# Altium footprint library QFN_Sq_50P_Side_M.PcbLib: 118 footprints (part 8 of 8)
Each footprint in its own frame and in the unit in brackets; x right, y up, seen from the top. Pads: shape width x height; smd on the part's side, far side on the other; paste and mask are expansions set on the pad; w line width, h text height; cw(c..) or ccw(c..) is an arc to the next point about the centre after c.
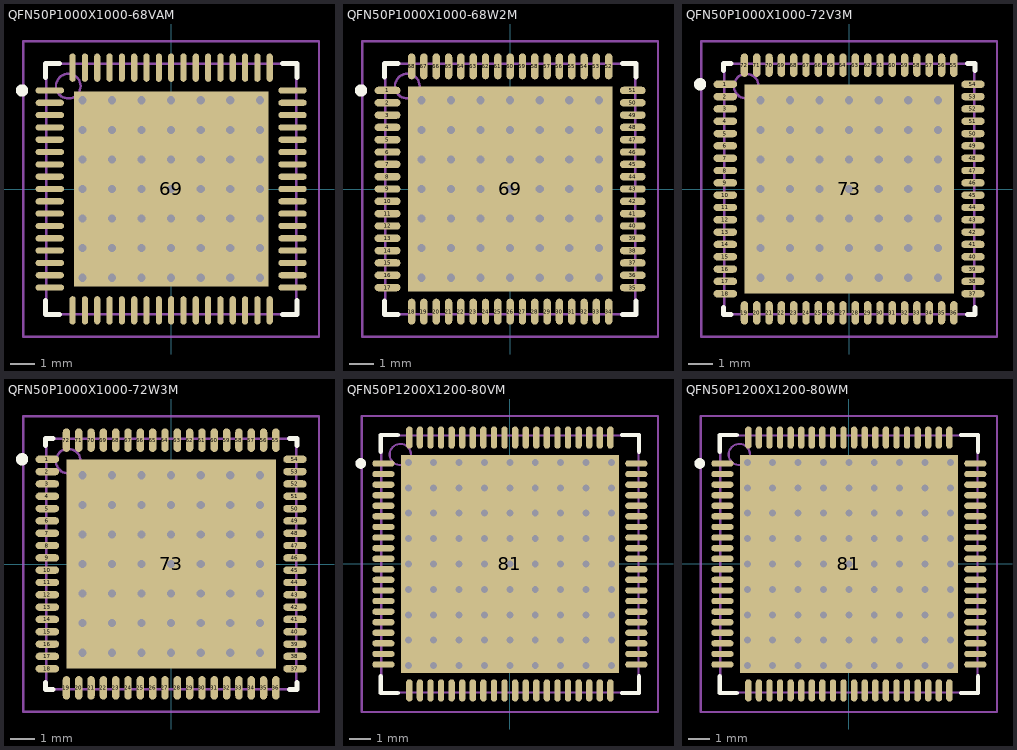
[diagram p7: the footprints below, top view; thin cyan lines are the x and y axes]

## QFN50P1000X1000-68VAM [mm] "68-Pin Plastic Quad Flat No-Lead 0.5 mm Pitch"
height 1
pads (69):
  oval 1.15x0.25 smd: 1(-4.925,4) 2(-4.925,3.5) 3(-4.925,3) 4(-4.925,2.5) 5(-4.925,2) 6(-4.925,1.5) 7(-4.925,1) 8(-4.925,0.5) 9(-4.925,0) 10(-4.925,-0.5) 11(-4.925,-1) 12(-4.925,-1.5) 13(-4.925,-2) 14(-4.925,-2.5) 15(-4.925,-3) 16(-4.925,-3.5) 17(-4.925,-4) 35(4.925,-4) 36(4.925,-3.5) 37(4.925,-3) 38(4.925,-2.5) 39(4.925,-2) 40(4.925,-1.5) 41(4.925,-1) 42(4.925,-0.5) 43(4.925,0) 44(4.925,0.5) 45(4.925,1) 46(4.925,1.5) 47(4.925,2) 48(4.925,2.5) 49(4.925,3) 50(4.925,3.5) 51(4.925,4)
  oval 0.25x1.15 smd: 18(-4,-4.925) 19(-3.5,-4.925) 20(-3,-4.925) 21(-2.5,-4.925) 22(-2,-4.925) 23(-1.5,-4.925) 24(-1,-4.925) 25(-0.5,-4.925) 26(0,-4.925) 27(0.5,-4.925) 28(1,-4.925) 29(1.5,-4.925) 30(2,-4.925) 31(2.5,-4.925) 32(3,-4.925) 33(3.5,-4.925) 34(4,-4.925) 52(4,4.925) 53(3.5,4.925) 54(3,4.925) 55(2.5,4.925) 56(2,4.925) 57(1.5,4.925) 58(1,4.925) 59(0.5,4.925) 60(0,4.925) 61(-0.5,4.925) 62(-1,4.925) 63(-1.5,4.925) 64(-2,4.925) 65(-2.5,4.925) 66(-3,4.925) 67(-3.5,4.925) 68(-4,4.925)
  rect 7.9x7.9 smd: 69(0,0)
via -3.6,3.6 diameter 0.66 hole 0.33
via -2.4,3.6 diameter 0.66 hole 0.33
via -1.2,3.6 diameter 0.66 hole 0.33
via 0,3.6 diameter 0.66 hole 0.33
via 1.2,3.6 diameter 0.66 hole 0.33
via 2.4,3.6 diameter 0.66 hole 0.33
via 3.6,3.6 diameter 0.66 hole 0.33
via -3.6,2.4 diameter 0.66 hole 0.33
via -2.4,2.4 diameter 0.66 hole 0.33
via -1.2,2.4 diameter 0.66 hole 0.33
via 0,2.4 diameter 0.66 hole 0.33
via 1.2,2.4 diameter 0.66 hole 0.33
via 2.4,2.4 diameter 0.66 hole 0.33
via 3.6,2.4 diameter 0.66 hole 0.33
via -3.6,1.2 diameter 0.66 hole 0.33
via -2.4,1.2 diameter 0.66 hole 0.33
via -1.2,1.2 diameter 0.66 hole 0.33
via 0,1.2 diameter 0.66 hole 0.33
via 1.2,1.2 diameter 0.66 hole 0.33
via 2.4,1.2 diameter 0.66 hole 0.33
via 3.6,1.2 diameter 0.66 hole 0.33
via -3.6,0 diameter 0.66 hole 0.33
via -2.4,0 diameter 0.66 hole 0.33
via -1.2,0 diameter 0.66 hole 0.33
via 0,0 diameter 0.66 hole 0.33
via 1.2,0 diameter 0.66 hole 0.33
via 2.4,0 diameter 0.66 hole 0.33
via 3.6,0 diameter 0.66 hole 0.33
via -3.6,-1.2 diameter 0.66 hole 0.33
via -2.4,-1.2 diameter 0.66 hole 0.33
via -1.2,-1.2 diameter 0.66 hole 0.33
via 0,-1.2 diameter 0.66 hole 0.33
via 1.2,-1.2 diameter 0.66 hole 0.33
via 2.4,-1.2 diameter 0.66 hole 0.33
via 3.6,-1.2 diameter 0.66 hole 0.33
via -3.6,-2.4 diameter 0.66 hole 0.33
via -2.4,-2.4 diameter 0.66 hole 0.33
via -1.2,-2.4 diameter 0.66 hole 0.33
via 0,-2.4 diameter 0.66 hole 0.33
via 1.2,-2.4 diameter 0.66 hole 0.33
via 2.4,-2.4 diameter 0.66 hole 0.33
via 3.6,-2.4 diameter 0.66 hole 0.33
via -3.6,-3.6 diameter 0.66 hole 0.33
via -2.4,-3.6 diameter 0.66 hole 0.33
via -1.2,-3.6 diameter 0.66 hole 0.33
via 0,-3.6 diameter 0.66 hole 0.33
via 1.2,-3.6 diameter 0.66 hole 0.33
via 2.4,-3.6 diameter 0.66 hole 0.33
via 3.6,-3.6 diameter 0.66 hole 0.33
Top Overlay:
  circle w0.25: c-6.05,4 r0.125
  lines w0.2: -5.1,-4.525 -5.1,-5.1 -4.525,-5.1 ; -5.1,4.525 -5.1,5.1 -4.525,5.1 ; 4.525,-5.1 5.1,-5.1 5.1,-4.525 ; 4.525,5.1 5.1,5.1 5.1,4.525
Mechanical 13:
  circle w0.1: c-4.175,4.175 r0.5
  lines w0.1: -5.075,-5.075 -5.075,5.075 5.075,5.075 5.075,-5.075 -5.075,-5.075
Mechanical 15:
  lines w0.1: -0.5,0 0.5,0 ; 0,-0.5 0,0.5 ; -6,-6 -6,6 6,6 6,-6 -6,-6
3D body: height 1, standoff 0, extent -5.075,-5.075 5.075,5.075

## QFN50P1000X1000-68W2M [mm] "QFN, 68-Leads, Body 10x10mm, Pitch 0.5mm, IPC Low Density"
height 0.8
pads (69):
  oval 1.05x0.3 smd: 1(-4.975,4) 2(-4.975,3.5) 3(-4.975,3) 4(-4.975,2.5) 5(-4.975,2) 6(-4.975,1.5) 7(-4.975,1) 8(-4.975,0.5) 9(-4.975,0) 10(-4.975,-0.5) 11(-4.975,-1) 12(-4.975,-1.5) 13(-4.975,-2) 14(-4.975,-2.5) 15(-4.975,-3) 16(-4.975,-3.5) 17(-4.975,-4) 35(4.975,-4) 36(4.975,-3.5) 37(4.975,-3) 38(4.975,-2.5) 39(4.975,-2) 40(4.975,-1.5) 41(4.975,-1) 42(4.975,-0.5) 43(4.975,0) 44(4.975,0.5) 45(4.975,1) 46(4.975,1.5) 47(4.975,2) 48(4.975,2.5) 49(4.975,3) 50(4.975,3.5) 51(4.975,4)
  oval 0.3x1.05 smd: 18(-4,-4.975) 19(-3.5,-4.975) 20(-3,-4.975) 21(-2.5,-4.975) 22(-2,-4.975) 23(-1.5,-4.975) 24(-1,-4.975) 25(-0.5,-4.975) 26(0,-4.975) 27(0.5,-4.975) 28(1,-4.975) 29(1.5,-4.975) 30(2,-4.975) 31(2.5,-4.975) 32(3,-4.975) 33(3.5,-4.975) 34(4,-4.975) 52(4,4.975) 53(3.5,4.975) 54(3,4.975) 55(2.5,4.975) 56(2,4.975) 57(1.5,4.975) 58(1,4.975) 59(0.5,4.975) 60(0,4.975) 61(-0.5,4.975) 62(-1,4.975) 63(-1.5,4.975) 64(-2,4.975) 65(-2.5,4.975) 66(-3,4.975) 67(-3.5,4.975) 68(-4,4.975)
  rect 8.3x8.3 smd: 69(0,0)
via -3.6,3.6 diameter 0.66 hole 0.33
via -2.4,3.6 diameter 0.66 hole 0.33
via -1.2,3.6 diameter 0.66 hole 0.33
via 0,3.6 diameter 0.66 hole 0.33
via 1.2,3.6 diameter 0.66 hole 0.33
via 2.4,3.6 diameter 0.66 hole 0.33
via 3.6,3.6 diameter 0.66 hole 0.33
via -3.6,2.4 diameter 0.66 hole 0.33
via -2.4,2.4 diameter 0.66 hole 0.33
via -1.2,2.4 diameter 0.66 hole 0.33
via 0,2.4 diameter 0.66 hole 0.33
via 1.2,2.4 diameter 0.66 hole 0.33
via 2.4,2.4 diameter 0.66 hole 0.33
via 3.6,2.4 diameter 0.66 hole 0.33
via -3.6,1.2 diameter 0.66 hole 0.33
via -2.4,1.2 diameter 0.66 hole 0.33
via -1.2,1.2 diameter 0.66 hole 0.33
via 0,1.2 diameter 0.66 hole 0.33
via 1.2,1.2 diameter 0.66 hole 0.33
via 2.4,1.2 diameter 0.66 hole 0.33
via 3.6,1.2 diameter 0.66 hole 0.33
via -3.6,0 diameter 0.66 hole 0.33
via -2.4,0 diameter 0.66 hole 0.33
via -1.2,0 diameter 0.66 hole 0.33
via 0,0 diameter 0.66 hole 0.33
via 1.2,0 diameter 0.66 hole 0.33
via 2.4,0 diameter 0.66 hole 0.33
via 3.6,0 diameter 0.66 hole 0.33
via -3.6,-1.2 diameter 0.66 hole 0.33
via -2.4,-1.2 diameter 0.66 hole 0.33
via -1.2,-1.2 diameter 0.66 hole 0.33
via 0,-1.2 diameter 0.66 hole 0.33
via 1.2,-1.2 diameter 0.66 hole 0.33
via 2.4,-1.2 diameter 0.66 hole 0.33
via 3.6,-1.2 diameter 0.66 hole 0.33
via -3.6,-2.4 diameter 0.66 hole 0.33
via -2.4,-2.4 diameter 0.66 hole 0.33
via -1.2,-2.4 diameter 0.66 hole 0.33
via 0,-2.4 diameter 0.66 hole 0.33
via 1.2,-2.4 diameter 0.66 hole 0.33
via 2.4,-2.4 diameter 0.66 hole 0.33
via 3.6,-2.4 diameter 0.66 hole 0.33
via -3.6,-3.6 diameter 0.66 hole 0.33
via -2.4,-3.6 diameter 0.66 hole 0.33
via -1.2,-3.6 diameter 0.66 hole 0.33
via 0,-3.6 diameter 0.66 hole 0.33
via 1.2,-3.6 diameter 0.66 hole 0.33
via 2.4,-3.6 diameter 0.66 hole 0.33
via 3.6,-3.6 diameter 0.66 hole 0.33
Top Overlay:
  circle w0.25: c-6.05,4 r0.125
  lines w0.2: -5.1,-4.55 -5.1,-5.1 -4.55,-5.1 ; -5.1,4.55 -5.1,5.1 -4.55,5.1 ; 4.55,-5.1 5.1,-5.1 5.1,-4.55 ; 4.55,5.1 5.1,5.1 5.1,4.55
Mechanical 13:
  circle w0.1: c-4.175,4.175 r0.5
  lines w0.1: -5.075,-5.075 -5.075,5.075 5.075,5.075 5.075,-5.075 -5.075,-5.075
Mechanical 15:
  lines w0.1: -0.5,0 0.5,0 ; 0,-0.5 0,0.5 ; -6,-6 -6,6 6,6 6,-6 -6,-6
3D body: height 0.8, standoff 0, extent -5.075,-5.075 5.075,5.075

## QFN50P1000X1000-72V3M [mm] "QFN, 72-Leads, Body 10x10mm, Pitch 0.5mm, IPC Low Density"
height 1
pads (73):
  oval 0.95x0.3 smd: 1(-5.025,4.25) 2(-5.025,3.75) 3(-5.025,3.25) 4(-5.025,2.75) 5(-5.025,2.25) 6(-5.025,1.75) 7(-5.025,1.25) 8(-5.025,0.75) 9(-5.025,0.25) 10(-5.025,-0.25) 11(-5.025,-0.75) 12(-5.025,-1.25) 13(-5.025,-1.75) 14(-5.025,-2.25) 15(-5.025,-2.75) 16(-5.025,-3.25) 17(-5.025,-3.75) 18(-5.025,-4.25) 37(5.025,-4.25) 38(5.025,-3.75) 39(5.025,-3.25) 40(5.025,-2.75) 41(5.025,-2.25) 42(5.025,-1.75) 43(5.025,-1.25) 44(5.025,-0.75) 45(5.025,-0.25) 46(5.025,0.25) 47(5.025,0.75) 48(5.025,1.25) 49(5.025,1.75) 50(5.025,2.25) 51(5.025,2.75) 52(5.025,3.25) 53(5.025,3.75) 54(5.025,4.25)
  oval 0.3x0.95 smd: 19(-4.25,-5.025) 20(-3.75,-5.025) 21(-3.25,-5.025) 22(-2.75,-5.025) 23(-2.25,-5.025) 24(-1.75,-5.025) 25(-1.25,-5.025) 26(-0.75,-5.025) 27(-0.25,-5.025) 28(0.25,-5.025) 29(0.75,-5.025) 30(1.25,-5.025) 31(1.75,-5.025) 32(2.25,-5.025) 33(2.75,-5.025) 34(3.25,-5.025) 35(3.75,-5.025) 36(4.25,-5.025) 55(4.25,5.025) 56(3.75,5.025) 57(3.25,5.025) 58(2.75,5.025) 59(2.25,5.025) 60(1.75,5.025) 61(1.25,5.025) 62(0.75,5.025) 63(0.25,5.025) 64(-0.25,5.025) 65(-0.75,5.025) 66(-1.25,5.025) 67(-1.75,5.025) 68(-2.25,5.025) 69(-2.75,5.025) 70(-3.25,5.025) 71(-3.75,5.025) 72(-4.25,5.025)
  rect 8.5x8.5 smd: 73(0,0)
via -3.6,3.6 diameter 0.66 hole 0.33
via -2.4,3.6 diameter 0.66 hole 0.33
via -1.2,3.6 diameter 0.66 hole 0.33
via 0,3.6 diameter 0.66 hole 0.33
via 1.2,3.6 diameter 0.66 hole 0.33
via 2.4,3.6 diameter 0.66 hole 0.33
via 3.6,3.6 diameter 0.66 hole 0.33
via -3.6,2.4 diameter 0.66 hole 0.33
via -2.4,2.4 diameter 0.66 hole 0.33
via -1.2,2.4 diameter 0.66 hole 0.33
via 0,2.4 diameter 0.66 hole 0.33
via 1.2,2.4 diameter 0.66 hole 0.33
via 2.4,2.4 diameter 0.66 hole 0.33
via 3.6,2.4 diameter 0.66 hole 0.33
via -3.6,1.2 diameter 0.66 hole 0.33
via -2.4,1.2 diameter 0.66 hole 0.33
via -1.2,1.2 diameter 0.66 hole 0.33
via 0,1.2 diameter 0.66 hole 0.33
via 1.2,1.2 diameter 0.66 hole 0.33
via 2.4,1.2 diameter 0.66 hole 0.33
via 3.6,1.2 diameter 0.66 hole 0.33
via -3.6,0 diameter 0.66 hole 0.33
via -2.4,0 diameter 0.66 hole 0.33
via -1.2,0 diameter 0.66 hole 0.33
via 0,0 diameter 0.66 hole 0.33
via 1.2,0 diameter 0.66 hole 0.33
via 2.4,0 diameter 0.66 hole 0.33
via 3.6,0 diameter 0.66 hole 0.33
via -3.6,-1.2 diameter 0.66 hole 0.33
via -2.4,-1.2 diameter 0.66 hole 0.33
via -1.2,-1.2 diameter 0.66 hole 0.33
via 0,-1.2 diameter 0.66 hole 0.33
via 1.2,-1.2 diameter 0.66 hole 0.33
via 2.4,-1.2 diameter 0.66 hole 0.33
via 3.6,-1.2 diameter 0.66 hole 0.33
via -3.6,-2.4 diameter 0.66 hole 0.33
via -2.4,-2.4 diameter 0.66 hole 0.33
via -1.2,-2.4 diameter 0.66 hole 0.33
via 0,-2.4 diameter 0.66 hole 0.33
via 1.2,-2.4 diameter 0.66 hole 0.33
via 2.4,-2.4 diameter 0.66 hole 0.33
via 3.6,-2.4 diameter 0.66 hole 0.33
via -3.6,-3.6 diameter 0.66 hole 0.33
via -2.4,-3.6 diameter 0.66 hole 0.33
via -1.2,-3.6 diameter 0.66 hole 0.33
via 0,-3.6 diameter 0.66 hole 0.33
via 1.2,-3.6 diameter 0.66 hole 0.33
via 2.4,-3.6 diameter 0.66 hole 0.33
via 3.6,-3.6 diameter 0.66 hole 0.33
Top Overlay:
  circle w0.25: c-6.05,4.25 r0.125
  lines w0.2: -5.1,-4.8 -5.1,-5.1 -4.8,-5.1 ; -5.1,4.8 -5.1,5.1 -4.8,5.1 ; 4.8,-5.1 5.1,-5.1 5.1,-4.8 ; 4.8,5.1 5.1,5.1 5.1,4.8
Mechanical 13:
  circle w0.1: c-4.175,4.175 r0.5
  lines w0.1: -5.075,-5.075 -5.075,5.075 5.075,5.075 5.075,-5.075 -5.075,-5.075
Mechanical 15:
  lines w0.1: -0.5,0 0.5,0 ; 0,-0.5 0,0.5 ; -6,-6 -6,6 6,6 6,-6 -6,-6
3D body: height 1, standoff 0, extent -5.075,-5.075 5.075,5.075

## QFN50P1000X1000-72W3M [mm] "QFN, 72-Leads, Body 10x10mm, Pitch 0.5mm, IPC Low Density"
height 0.8
pads (73):
  oval 0.95x0.3 smd: 1(-5.025,4.25) 2(-5.025,3.75) 3(-5.025,3.25) 4(-5.025,2.75) 5(-5.025,2.25) 6(-5.025,1.75) 7(-5.025,1.25) 8(-5.025,0.75) 9(-5.025,0.25) 10(-5.025,-0.25) 11(-5.025,-0.75) 12(-5.025,-1.25) 13(-5.025,-1.75) 14(-5.025,-2.25) 15(-5.025,-2.75) 16(-5.025,-3.25) 17(-5.025,-3.75) 18(-5.025,-4.25) 37(5.025,-4.25) 38(5.025,-3.75) 39(5.025,-3.25) 40(5.025,-2.75) 41(5.025,-2.25) 42(5.025,-1.75) 43(5.025,-1.25) 44(5.025,-0.75) 45(5.025,-0.25) 46(5.025,0.25) 47(5.025,0.75) 48(5.025,1.25) 49(5.025,1.75) 50(5.025,2.25) 51(5.025,2.75) 52(5.025,3.25) 53(5.025,3.75) 54(5.025,4.25)
  oval 0.3x0.95 smd: 19(-4.25,-5.025) 20(-3.75,-5.025) 21(-3.25,-5.025) 22(-2.75,-5.025) 23(-2.25,-5.025) 24(-1.75,-5.025) 25(-1.25,-5.025) 26(-0.75,-5.025) 27(-0.25,-5.025) 28(0.25,-5.025) 29(0.75,-5.025) 30(1.25,-5.025) 31(1.75,-5.025) 32(2.25,-5.025) 33(2.75,-5.025) 34(3.25,-5.025) 35(3.75,-5.025) 36(4.25,-5.025) 55(4.25,5.025) 56(3.75,5.025) 57(3.25,5.025) 58(2.75,5.025) 59(2.25,5.025) 60(1.75,5.025) 61(1.25,5.025) 62(0.75,5.025) 63(0.25,5.025) 64(-0.25,5.025) 65(-0.75,5.025) 66(-1.25,5.025) 67(-1.75,5.025) 68(-2.25,5.025) 69(-2.75,5.025) 70(-3.25,5.025) 71(-3.75,5.025) 72(-4.25,5.025)
  rect 8.5x8.5 smd: 73(0,0)
via -3.6,3.6 diameter 0.66 hole 0.33
via -2.4,3.6 diameter 0.66 hole 0.33
via -1.2,3.6 diameter 0.66 hole 0.33
via 0,3.6 diameter 0.66 hole 0.33
via 1.2,3.6 diameter 0.66 hole 0.33
via 2.4,3.6 diameter 0.66 hole 0.33
via 3.6,3.6 diameter 0.66 hole 0.33
via -3.6,2.4 diameter 0.66 hole 0.33
via -2.4,2.4 diameter 0.66 hole 0.33
via -1.2,2.4 diameter 0.66 hole 0.33
via 0,2.4 diameter 0.66 hole 0.33
via 1.2,2.4 diameter 0.66 hole 0.33
via 2.4,2.4 diameter 0.66 hole 0.33
via 3.6,2.4 diameter 0.66 hole 0.33
via -3.6,1.2 diameter 0.66 hole 0.33
via -2.4,1.2 diameter 0.66 hole 0.33
via -1.2,1.2 diameter 0.66 hole 0.33
via 0,1.2 diameter 0.66 hole 0.33
via 1.2,1.2 diameter 0.66 hole 0.33
via 2.4,1.2 diameter 0.66 hole 0.33
via 3.6,1.2 diameter 0.66 hole 0.33
via -3.6,0 diameter 0.66 hole 0.33
via -2.4,0 diameter 0.66 hole 0.33
via -1.2,0 diameter 0.66 hole 0.33
via 0,0 diameter 0.66 hole 0.33
via 1.2,0 diameter 0.66 hole 0.33
via 2.4,0 diameter 0.66 hole 0.33
via 3.6,0 diameter 0.66 hole 0.33
via -3.6,-1.2 diameter 0.66 hole 0.33
via -2.4,-1.2 diameter 0.66 hole 0.33
via -1.2,-1.2 diameter 0.66 hole 0.33
via 0,-1.2 diameter 0.66 hole 0.33
via 1.2,-1.2 diameter 0.66 hole 0.33
via 2.4,-1.2 diameter 0.66 hole 0.33
via 3.6,-1.2 diameter 0.66 hole 0.33
via -3.6,-2.4 diameter 0.66 hole 0.33
via -2.4,-2.4 diameter 0.66 hole 0.33
via -1.2,-2.4 diameter 0.66 hole 0.33
via 0,-2.4 diameter 0.66 hole 0.33
via 1.2,-2.4 diameter 0.66 hole 0.33
via 2.4,-2.4 diameter 0.66 hole 0.33
via 3.6,-2.4 diameter 0.66 hole 0.33
via -3.6,-3.6 diameter 0.66 hole 0.33
via -2.4,-3.6 diameter 0.66 hole 0.33
via -1.2,-3.6 diameter 0.66 hole 0.33
via 0,-3.6 diameter 0.66 hole 0.33
via 1.2,-3.6 diameter 0.66 hole 0.33
via 2.4,-3.6 diameter 0.66 hole 0.33
via 3.6,-3.6 diameter 0.66 hole 0.33
Top Overlay:
  circle w0.25: c-6.05,4.25 r0.125
  lines w0.2: -5.1,-4.8 -5.1,-5.1 -4.8,-5.1 ; -5.1,4.8 -5.1,5.1 -4.8,5.1 ; 4.8,-5.1 5.1,-5.1 5.1,-4.8 ; 4.8,5.1 5.1,5.1 5.1,4.8
Mechanical 13:
  circle w0.1: c-4.175,4.175 r0.5
  lines w0.1: -5.075,-5.075 -5.075,5.075 5.075,5.075 5.075,-5.075 -5.075,-5.075
Mechanical 15:
  lines w0.1: -0.5,0 0.5,0 ; 0,-0.5 0,0.5 ; -6,-6 -6,6 6,6 6,-6 -6,-6
3D body: height 0.8, standoff 0, extent -5.075,-5.075 5.075,5.075

## QFN50P1200X1200-80VM [mm] "QFN, 80-Leads, Body 12x12mm, Pitch 0.5mm, IPC Low Density"
height 1
pads (81):
  oval 1.05x0.3 smd: 1(-5.975,4.75) 2(-5.975,4.25) 3(-5.975,3.75) 4(-5.975,3.25) 5(-5.975,2.75) 6(-5.975,2.25) 7(-5.975,1.75) 8(-5.975,1.25) 9(-5.975,0.75) 10(-5.975,0.25) 11(-5.975,-0.25) 12(-5.975,-0.75) 13(-5.975,-1.25) 14(-5.975,-1.75) 15(-5.975,-2.25) 16(-5.975,-2.75) 17(-5.975,-3.25) 18(-5.975,-3.75) 19(-5.975,-4.25) 20(-5.975,-4.75) 41(5.975,-4.75) 42(5.975,-4.25) 43(5.975,-3.75) 44(5.975,-3.25) 45(5.975,-2.75) 46(5.975,-2.25) 47(5.975,-1.75) 48(5.975,-1.25) 49(5.975,-0.75) 50(5.975,-0.25) 51(5.975,0.25) 52(5.975,0.75) 53(5.975,1.25) 54(5.975,1.75) 55(5.975,2.25) 56(5.975,2.75) 57(5.975,3.25) 58(5.975,3.75) 59(5.975,4.25) 60(5.975,4.75)
  oval 0.3x1.05 smd: 21(-4.75,-5.975) 22(-4.25,-5.975) 23(-3.75,-5.975) 24(-3.25,-5.975) 25(-2.75,-5.975) 26(-2.25,-5.975) 27(-1.75,-5.975) 28(-1.25,-5.975) 29(-0.75,-5.975) 30(-0.25,-5.975) 31(0.25,-5.975) 32(0.75,-5.975) 33(1.25,-5.975) 34(1.75,-5.975) 35(2.25,-5.975) 36(2.75,-5.975) 37(3.25,-5.975) 38(3.75,-5.975) 39(4.25,-5.975) 40(4.75,-5.975) 61(4.75,5.975) 62(4.25,5.975) 63(3.75,5.975) 64(3.25,5.975) 65(2.75,5.975) 66(2.25,5.975) 67(1.75,5.975) 68(1.25,5.975) 69(0.75,5.975) 70(0.25,5.975) 71(-0.25,5.975) 72(-0.75,5.975) 73(-1.25,5.975) 74(-1.75,5.975) 75(-2.25,5.975) 76(-2.75,5.975) 77(-3.25,5.975) 78(-3.75,5.975) 79(-4.25,5.975) 80(-4.75,5.975)
  rect 10.3x10.3 smd: 81(0,0)
via -4.8,4.8 diameter 0.66 hole 0.33
via -3.6,4.8 diameter 0.66 hole 0.33
via -2.4,4.8 diameter 0.66 hole 0.33
via -1.2,4.8 diameter 0.66 hole 0.33
via 0,4.8 diameter 0.66 hole 0.33
via 1.2,4.8 diameter 0.66 hole 0.33
via 2.4,4.8 diameter 0.66 hole 0.33
via 3.6,4.8 diameter 0.66 hole 0.33
via 4.8,4.8 diameter 0.66 hole 0.33
via -4.8,3.6 diameter 0.66 hole 0.33
via -3.6,3.6 diameter 0.66 hole 0.33
via -2.4,3.6 diameter 0.66 hole 0.33
via -1.2,3.6 diameter 0.66 hole 0.33
via 0,3.6 diameter 0.66 hole 0.33
via 1.2,3.6 diameter 0.66 hole 0.33
via 2.4,3.6 diameter 0.66 hole 0.33
via 3.6,3.6 diameter 0.66 hole 0.33
via 4.8,3.6 diameter 0.66 hole 0.33
via -4.8,2.4 diameter 0.66 hole 0.33
via -3.6,2.4 diameter 0.66 hole 0.33
via -2.4,2.4 diameter 0.66 hole 0.33
via -1.2,2.4 diameter 0.66 hole 0.33
via 0,2.4 diameter 0.66 hole 0.33
via 1.2,2.4 diameter 0.66 hole 0.33
via 2.4,2.4 diameter 0.66 hole 0.33
via 3.6,2.4 diameter 0.66 hole 0.33
via 4.8,2.4 diameter 0.66 hole 0.33
via -4.8,1.2 diameter 0.66 hole 0.33
via -3.6,1.2 diameter 0.66 hole 0.33
via -2.4,1.2 diameter 0.66 hole 0.33
via -1.2,1.2 diameter 0.66 hole 0.33
via 0,1.2 diameter 0.66 hole 0.33
via 1.2,1.2 diameter 0.66 hole 0.33
via 2.4,1.2 diameter 0.66 hole 0.33
via 3.6,1.2 diameter 0.66 hole 0.33
via 4.8,1.2 diameter 0.66 hole 0.33
via -4.8,0 diameter 0.66 hole 0.33
via -3.6,0 diameter 0.66 hole 0.33
via -2.4,0 diameter 0.66 hole 0.33
via -1.2,0 diameter 0.66 hole 0.33
via 0,0 diameter 0.66 hole 0.33
via 1.2,0 diameter 0.66 hole 0.33
via 2.4,0 diameter 0.66 hole 0.33
via 3.6,0 diameter 0.66 hole 0.33
via 4.8,0 diameter 0.66 hole 0.33
via -4.8,-1.2 diameter 0.66 hole 0.33
via -3.6,-1.2 diameter 0.66 hole 0.33
via -2.4,-1.2 diameter 0.66 hole 0.33
via -1.2,-1.2 diameter 0.66 hole 0.33
via 0,-1.2 diameter 0.66 hole 0.33
via 1.2,-1.2 diameter 0.66 hole 0.33
via 2.4,-1.2 diameter 0.66 hole 0.33
via 3.6,-1.2 diameter 0.66 hole 0.33
via 4.8,-1.2 diameter 0.66 hole 0.33
via -4.8,-2.4 diameter 0.66 hole 0.33
via -3.6,-2.4 diameter 0.66 hole 0.33
via -2.4,-2.4 diameter 0.66 hole 0.33
via -1.2,-2.4 diameter 0.66 hole 0.33
via 0,-2.4 diameter 0.66 hole 0.33
via 1.2,-2.4 diameter 0.66 hole 0.33
via 2.4,-2.4 diameter 0.66 hole 0.33
via 3.6,-2.4 diameter 0.66 hole 0.33
via 4.8,-2.4 diameter 0.66 hole 0.33
via -4.8,-3.6 diameter 0.66 hole 0.33
via -3.6,-3.6 diameter 0.66 hole 0.33
via -2.4,-3.6 diameter 0.66 hole 0.33
via -1.2,-3.6 diameter 0.66 hole 0.33
via 0,-3.6 diameter 0.66 hole 0.33
via 1.2,-3.6 diameter 0.66 hole 0.33
via 2.4,-3.6 diameter 0.66 hole 0.33
via 3.6,-3.6 diameter 0.66 hole 0.33
via 4.8,-3.6 diameter 0.66 hole 0.33
via -4.8,-4.8 diameter 0.66 hole 0.33
via -3.6,-4.8 diameter 0.66 hole 0.33
via -2.4,-4.8 diameter 0.66 hole 0.33
via -1.2,-4.8 diameter 0.66 hole 0.33
via 0,-4.8 diameter 0.66 hole 0.33
via 1.2,-4.8 diameter 0.66 hole 0.33
via 2.4,-4.8 diameter 0.66 hole 0.33
via 3.6,-4.8 diameter 0.66 hole 0.33
via 4.8,-4.8 diameter 0.66 hole 0.33
Top Overlay:
  circle w0.25: c-7.05,4.75 r0.125
  lines w0.2: -6.1,-5.3 -6.1,-6.1 -5.3,-6.1 ; -6.1,5.3 -6.1,6.1 -5.3,6.1 ; 5.3,-6.1 6.1,-6.1 6.1,-5.3 ; 5.3,6.1 6.1,6.1 6.1,5.3
Mechanical 13:
  circle w0.1: c-5.175,5.175 r0.5
  lines w0.1: -6.075,-6.075 -6.075,6.075 6.075,6.075 6.075,-6.075 -6.075,-6.075
Mechanical 15:
  lines w0.1: -0.5,0 0.5,0 ; 0,-0.5 0,0.5 ; -7,-7 -7,7 7,7 7,-7 -7,-7
3D body: height 1, standoff 0, extent -6.075,-6.075 6.075,6.075

## QFN50P1200X1200-80WM [mm] "QFN, 80-Leads, Body 12x12mm, Pitch 0.5mm, IPC Low Density"
height 0.8
pads (81):
  oval 1.05x0.3 smd: 1(-5.975,4.75) 2(-5.975,4.25) 3(-5.975,3.75) 4(-5.975,3.25) 5(-5.975,2.75) 6(-5.975,2.25) 7(-5.975,1.75) 8(-5.975,1.25) 9(-5.975,0.75) 10(-5.975,0.25) 11(-5.975,-0.25) 12(-5.975,-0.75) 13(-5.975,-1.25) 14(-5.975,-1.75) 15(-5.975,-2.25) 16(-5.975,-2.75) 17(-5.975,-3.25) 18(-5.975,-3.75) 19(-5.975,-4.25) 20(-5.975,-4.75) 41(5.975,-4.75) 42(5.975,-4.25) 43(5.975,-3.75) 44(5.975,-3.25) 45(5.975,-2.75) 46(5.975,-2.25) 47(5.975,-1.75) 48(5.975,-1.25) 49(5.975,-0.75) 50(5.975,-0.25) 51(5.975,0.25) 52(5.975,0.75) 53(5.975,1.25) 54(5.975,1.75) 55(5.975,2.25) 56(5.975,2.75) 57(5.975,3.25) 58(5.975,3.75) 59(5.975,4.25) 60(5.975,4.75)
  oval 0.3x1.05 smd: 21(-4.75,-5.975) 22(-4.25,-5.975) 23(-3.75,-5.975) 24(-3.25,-5.975) 25(-2.75,-5.975) 26(-2.25,-5.975) 27(-1.75,-5.975) 28(-1.25,-5.975) 29(-0.75,-5.975) 30(-0.25,-5.975) 31(0.25,-5.975) 32(0.75,-5.975) 33(1.25,-5.975) 34(1.75,-5.975) 35(2.25,-5.975) 36(2.75,-5.975) 37(3.25,-5.975) 38(3.75,-5.975) 39(4.25,-5.975) 40(4.75,-5.975) 61(4.75,5.975) 62(4.25,5.975) 63(3.75,5.975) 64(3.25,5.975) 65(2.75,5.975) 66(2.25,5.975) 67(1.75,5.975) 68(1.25,5.975) 69(0.75,5.975) 70(0.25,5.975) 71(-0.25,5.975) 72(-0.75,5.975) 73(-1.25,5.975) 74(-1.75,5.975) 75(-2.25,5.975) 76(-2.75,5.975) 77(-3.25,5.975) 78(-3.75,5.975) 79(-4.25,5.975) 80(-4.75,5.975)
  rect 10.3x10.3 smd: 81(0,0)
via -4.8,4.8 diameter 0.66 hole 0.33
via -3.6,4.8 diameter 0.66 hole 0.33
via -2.4,4.8 diameter 0.66 hole 0.33
via -1.2,4.8 diameter 0.66 hole 0.33
via 0,4.8 diameter 0.66 hole 0.33
via 1.2,4.8 diameter 0.66 hole 0.33
via 2.4,4.8 diameter 0.66 hole 0.33
via 3.6,4.8 diameter 0.66 hole 0.33
via 4.8,4.8 diameter 0.66 hole 0.33
via -4.8,3.6 diameter 0.66 hole 0.33
via -3.6,3.6 diameter 0.66 hole 0.33
via -2.4,3.6 diameter 0.66 hole 0.33
via -1.2,3.6 diameter 0.66 hole 0.33
via 0,3.6 diameter 0.66 hole 0.33
via 1.2,3.6 diameter 0.66 hole 0.33
via 2.4,3.6 diameter 0.66 hole 0.33
via 3.6,3.6 diameter 0.66 hole 0.33
via 4.8,3.6 diameter 0.66 hole 0.33
via -4.8,2.4 diameter 0.66 hole 0.33
via -3.6,2.4 diameter 0.66 hole 0.33
via -2.4,2.4 diameter 0.66 hole 0.33
via -1.2,2.4 diameter 0.66 hole 0.33
via 0,2.4 diameter 0.66 hole 0.33
via 1.2,2.4 diameter 0.66 hole 0.33
via 2.4,2.4 diameter 0.66 hole 0.33
via 3.6,2.4 diameter 0.66 hole 0.33
via 4.8,2.4 diameter 0.66 hole 0.33
via -4.8,1.2 diameter 0.66 hole 0.33
via -3.6,1.2 diameter 0.66 hole 0.33
via -2.4,1.2 diameter 0.66 hole 0.33
via -1.2,1.2 diameter 0.66 hole 0.33
via 0,1.2 diameter 0.66 hole 0.33
via 1.2,1.2 diameter 0.66 hole 0.33
via 2.4,1.2 diameter 0.66 hole 0.33
via 3.6,1.2 diameter 0.66 hole 0.33
via 4.8,1.2 diameter 0.66 hole 0.33
via -4.8,0 diameter 0.66 hole 0.33
via -3.6,0 diameter 0.66 hole 0.33
via -2.4,0 diameter 0.66 hole 0.33
via -1.2,0 diameter 0.66 hole 0.33
via 0,0 diameter 0.66 hole 0.33
via 1.2,0 diameter 0.66 hole 0.33
via 2.4,0 diameter 0.66 hole 0.33
via 3.6,0 diameter 0.66 hole 0.33
via 4.8,0 diameter 0.66 hole 0.33
via -4.8,-1.2 diameter 0.66 hole 0.33
via -3.6,-1.2 diameter 0.66 hole 0.33
via -2.4,-1.2 diameter 0.66 hole 0.33
via -1.2,-1.2 diameter 0.66 hole 0.33
via 0,-1.2 diameter 0.66 hole 0.33
via 1.2,-1.2 diameter 0.66 hole 0.33
via 2.4,-1.2 diameter 0.66 hole 0.33
via 3.6,-1.2 diameter 0.66 hole 0.33
via 4.8,-1.2 diameter 0.66 hole 0.33
via -4.8,-2.4 diameter 0.66 hole 0.33
via -3.6,-2.4 diameter 0.66 hole 0.33
via -2.4,-2.4 diameter 0.66 hole 0.33
via -1.2,-2.4 diameter 0.66 hole 0.33
via 0,-2.4 diameter 0.66 hole 0.33
via 1.2,-2.4 diameter 0.66 hole 0.33
via 2.4,-2.4 diameter 0.66 hole 0.33
via 3.6,-2.4 diameter 0.66 hole 0.33
via 4.8,-2.4 diameter 0.66 hole 0.33
via -4.8,-3.6 diameter 0.66 hole 0.33
via -3.6,-3.6 diameter 0.66 hole 0.33
via -2.4,-3.6 diameter 0.66 hole 0.33
via -1.2,-3.6 diameter 0.66 hole 0.33
via 0,-3.6 diameter 0.66 hole 0.33
via 1.2,-3.6 diameter 0.66 hole 0.33
via 2.4,-3.6 diameter 0.66 hole 0.33
via 3.6,-3.6 diameter 0.66 hole 0.33
via 4.8,-3.6 diameter 0.66 hole 0.33
via -4.8,-4.8 diameter 0.66 hole 0.33
via -3.6,-4.8 diameter 0.66 hole 0.33
via -2.4,-4.8 diameter 0.66 hole 0.33
via -1.2,-4.8 diameter 0.66 hole 0.33
via 0,-4.8 diameter 0.66 hole 0.33
via 1.2,-4.8 diameter 0.66 hole 0.33
via 2.4,-4.8 diameter 0.66 hole 0.33
via 3.6,-4.8 diameter 0.66 hole 0.33
via 4.8,-4.8 diameter 0.66 hole 0.33
Top Overlay:
  circle w0.25: c-7.05,4.75 r0.125
  lines w0.2: -6.1,-5.3 -6.1,-6.1 -5.3,-6.1 ; -6.1,5.3 -6.1,6.1 -5.3,6.1 ; 5.3,-6.1 6.1,-6.1 6.1,-5.3 ; 5.3,6.1 6.1,6.1 6.1,5.3
Mechanical 13:
  circle w0.1: c-5.175,5.175 r0.5
  lines w0.1: -6.075,-6.075 -6.075,6.075 6.075,6.075 6.075,-6.075 -6.075,-6.075
Mechanical 15:
  lines w0.1: -0.5,0 0.5,0 ; 0,-0.5 0,0.5 ; -7,-7 -7,7 7,7 7,-7 -7,-7
3D body: height 0.8, standoff 0, extent -6.075,-6.075 6.075,6.075